# Altium schematic symbol library 2020-03-29_20-06-19.SchLib: 2 symbols
Pins are listed as number, name and electrical type; pins without a type are passive.

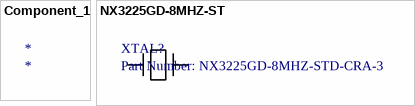
[diagram p0: symbols Component_1 to NX3225GD-8MHZ-ST]

## Component_1
designator *

## NX3225GD-8MHZ-ST
designator XTAL?, comment Part Number: NX3225GD-8MHZ-STD-CRA-3
No Description Available; Vendor: NDK America; Built_By: EMA_Cory; Datasheet: https://www.ndk.com/images/products/catalog/c_NX3225GD-STD-CRA-3_e.pdf; Manufacturer_Part_Number: NX3225GD-8MHZ-STD-CRA-3; Copyright: Copyright (C) 2018 Accelerated Designs. All rights reserved; RefDes: RefDes; Type: DEV; Value: Value
footprint XTAL_NX3225GD-8M
pins: 1, 2